# EAGLE library part 2,8ZOLL240X320SPITFTLCD (library 2.8 zoll 240x320 SPI TFT LCD)
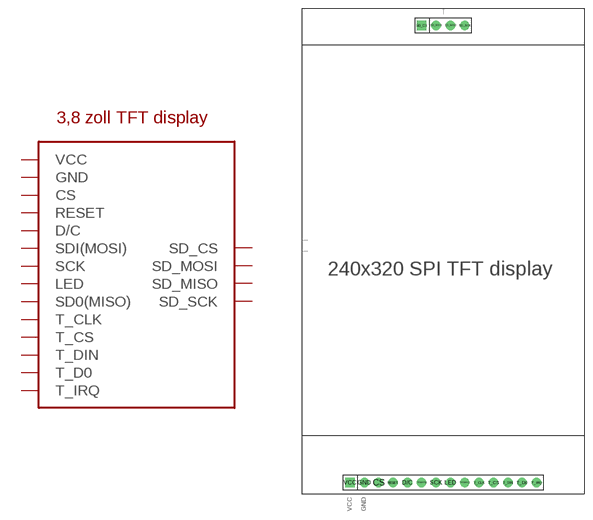
[diagram p0: symbol with the pads of 2,8ZOLL240X320SPITFTLCD; footprint 2,8ZOLL240X320SPITFTLCD]

Designator prefix -

## 2,8ZOLL240X320SPITFTLCD  [2,8ZOLL240X320SPITFTLCD]
CS  CS
D/C  D/C
GND  GND
LED  LED
RESET  RESET
SCK  SCK
SD0(MISO)  SD0(MISO)
SD_CS  SD_CS
SD_MISO  SD_MISO
SD_MOSI  SD_MOSI
SD_SCK  SD_SCK
SDI(MOSI)  SDI(MOSI)
T_CLK  T_CLK
T_CS  T_CS
T_D0  T_D0
T_DIN  T_DIN
T_IRQ  T_IRQ
VCC  VCC

## Footprint 2,8ZOLL240X320SPITFTLCD (pad centres in mm)
drill 0.9 pad 1.676: CS 13.57,-74.01; D/C 18.65,-74.01; GND 11.03,-74.01; LED 26.27,-74.01; RESET 16.11,-74.01; SCK 23.73,-74.01; SD0(MISO) 28.81,-74.01; SD_MISO 26.27,6.99; SD_MOSI 23.73,6.99; SD_SCK 28.81,6.99; SDI(MOSI) 21.19,-74.01; T_CLK 31.35,-74.01; T_CS 33.89,-74.01; T_D0 38.97,-74.01; T_DIN 36.43,-74.01; T_IRQ 41.51,-74.01
drill 0.9 pad 1.676 square: SD_CS 21.19,6.99; VCC 8.49,-74.01